# EAGLE library part SN74LVC2G00 (library custom)
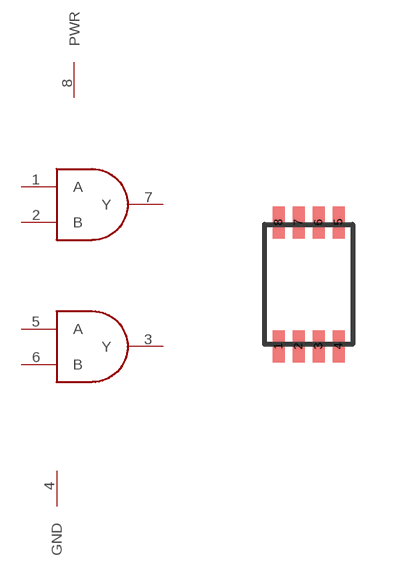
[diagram p3: symbol with the pads of DCT8; footprint DCT8]

Designator prefix -; gates G$1=AND G$2=AND G$3=GND G$4=PWR

## SN74LVC2G00  [DCT8]
1  G$1:A  in
2  G$1:B  in
3  G$2:Y  out
4  G$3:GND  pas
5  G$2:A  in
6  G$2:B  in
7  G$1:Y  out
8  G$4:PWR  pas

## Footprint DCT8 (pad centres in mm)
smd 0.3 x 0.8: 1 -0.75,-1.55; 2 -0.25,-1.55; 3 0.25,-1.55; 4 0.75,-1.55; 5 0.75,1.55; 6 0.25,1.55; 7 -0.25,1.55; 8 -0.75,1.55